# Altium footprint library MOLEX_0532610871.PcbLib: 1 footprints
Each footprint in its own frame and in the unit in brackets; x right, y up, seen from the top. Pads: shape width x height; smd on the part's side, far side on the other; paste and mask are expansions set on the pad; w line width, h text height; cw(c..) or ccw(c..) is an arc to the next point about the centre after c.
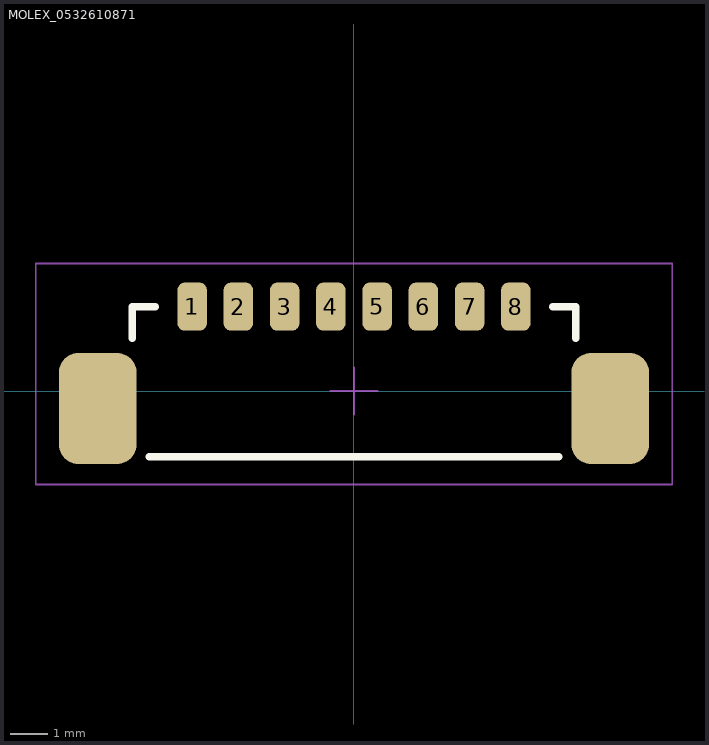
[diagram p0: the footprint, top view; thin cyan lines are the x and y axes]

## MOLEX_0532610871 [mm]
pads (10):
  rrect50% 0.8x1.3 smd: 1(-4.375,2.279) 2(-3.125,2.279) 3(-1.875,2.279) 4(-0.625,2.279) 5(0.625,2.279) 6(1.875,2.279) 7(3.125,2.279) 8(4.375,2.279)
  rrect50% 2.1x3 smd: ""(-6.929,-0.471) ""(6.929,-0.471)
Top Overlay:
  lines w0.2: -5.997,1.429 -5.997,2.279 -5.377,2.279 ; -5.538,-1.778 5.538,-1.778 ; 5.377,2.279 5.997,2.279 5.997,1.429
Mechanical 15:
  lines w0.05: -0.635,0 0.635,0 ; 0,-0.635 0,0.635 ; -8.6,-2.525 -8.6,3.444 8.6,3.444 8.6,-2.525 -8.6,-2.525
3D body "532610871.stp": height 3.4, standoff 0, extent -7.525,-2.54 7.625,2.66